# EAGLE library part MAX884 (library MAX884)
MAX884 5/3.3/Adj low Dropout, Low IQ, 200mA Linear Regulator
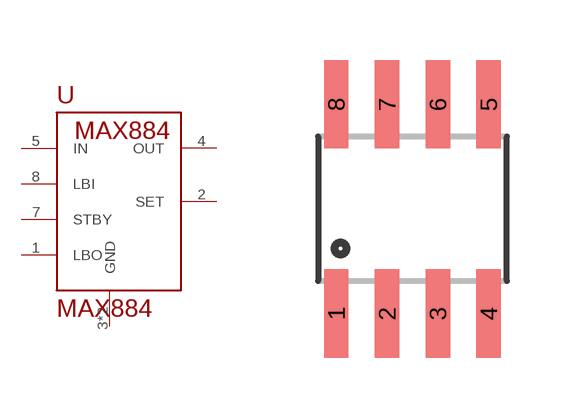
[diagram p0: symbol with the pads of SO08; footprint SO08]

Designator prefix -

## MAX884  [SO08]
1  LBO
2  SET
3  GND
4  OUT
5  IN
6  GND
7  STBY
8  LBI

## Footprint SO08 (pad centres in mm)
Small Outline Package Fits JEDEC packages (narrow SOIC-8)
smd 0.61 x 2.21: 1 -1.905,-2.616; 2 -0.635,-2.616; 3 0.635,-2.616; 4 1.905,-2.616; 5 1.905,2.616; 6 0.635,2.616; 7 -0.635,2.616; 8 -1.905,2.616